# Altium footprint library SOP50P600X170-16N.PcbLib: 1 footprints
Each footprint in its own frame and in the unit in brackets; x right, y up, seen from the top. Pads: shape width x height; smd on the part's side, far side on the other; paste and mask are expansions set on the pad; w line width, h text height; cw(c..) or ccw(c..) is an arc to the next point about the centre after c.
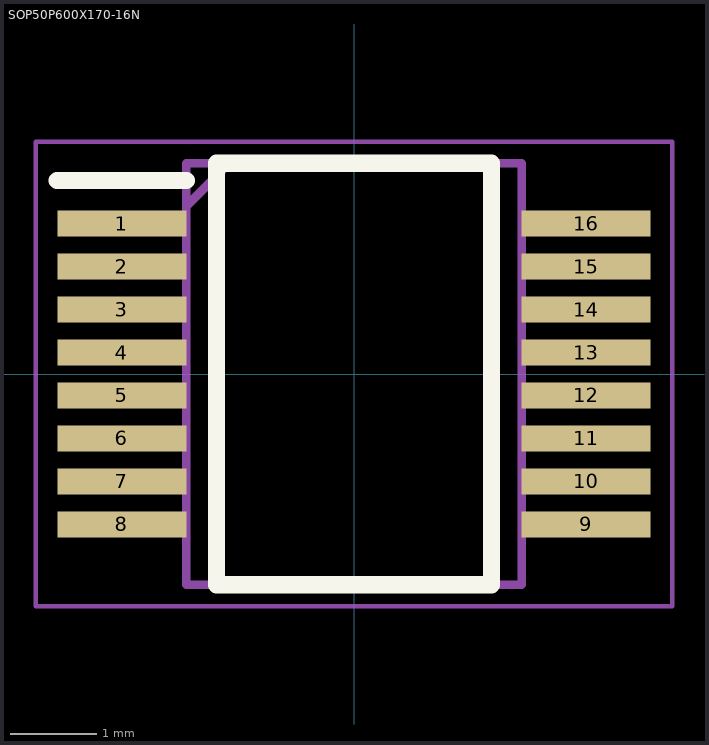
[diagram p0: the footprint, top view; thin cyan lines are the x and y axes]

## SOP50P600X170-16N [mm]
pads (16):
  rect 1.5x0.3 smd: 1(-2.7,1.75) 2(-2.7,1.25) 3(-2.7,0.75) 4(-2.7,0.25) 5(-2.7,-0.25) 6(-2.7,-0.75) 7(-2.7,-1.25) 8(-2.7,-1.75) 9(2.7,-1.75) 10(2.7,-1.25) 11(2.7,-0.75) 12(2.7,-0.25) 13(2.7,0.25) 14(2.7,0.75) 15(2.7,1.25) 16(2.7,1.75)
Top Overlay:
  lines w0.2: -3.45,2.25 -1.95,2.25 ; -1.6,-2.45 1.6,-2.45 1.6,2.45 -1.6,2.45 -1.6,-2.45
Mechanical 15:
  lines w0.1: -1.95,1.95 -1.45,2.45 ; -1.95,-2.45 1.95,-2.45 1.95,2.45 -1.95,2.45 -1.95,-2.45
Mechanical 20:
  lines w0.05: -3.7,-2.7 3.7,-2.7 3.7,2.7 -3.7,2.7 -3.7,-2.7